# Altium footprint library conn_pcb.PcbLib: 1 footprints
Each footprint in its own frame and in the unit in brackets; x right, y up, seen from the top. Pads: shape width x height; smd on the part's side, far side on the other; paste and mask are expansions set on the pad; w line width, h text height; cw(c..) or ccw(c..) is an arc to the next point about the centre after c.
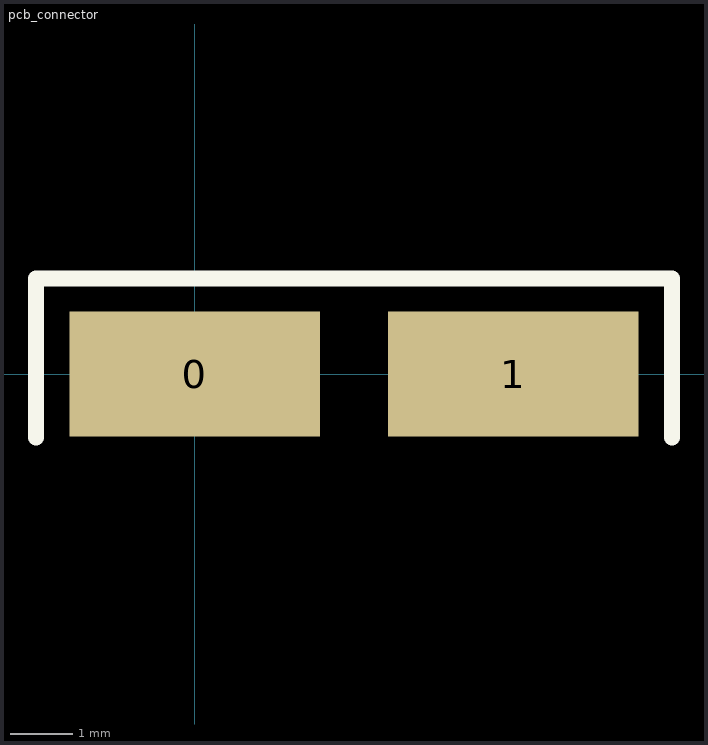
[diagram p0: the footprint, top view; thin cyan lines are the x and y axes]

## pcb_connector [mm]
pads (2):
  rect 4x2 smd: 0(0,0) 1(5.08,0)
Top Overlay:
  lines w0.254: -2.54,-1.016 -2.54,1.524 7.62,1.524 7.62,-1.016